# EAGLE library part TLV5618 (library EE445L)
The TLV5618A is a dual 12-bit voltage output DAC with a flexible 3-wire serial interface. The serial interface is compatible with TMS320, SPI, QSPI, and Microwire serial ports. It is programmed with a 16-bit serial string containing 4 control and 12 data bits
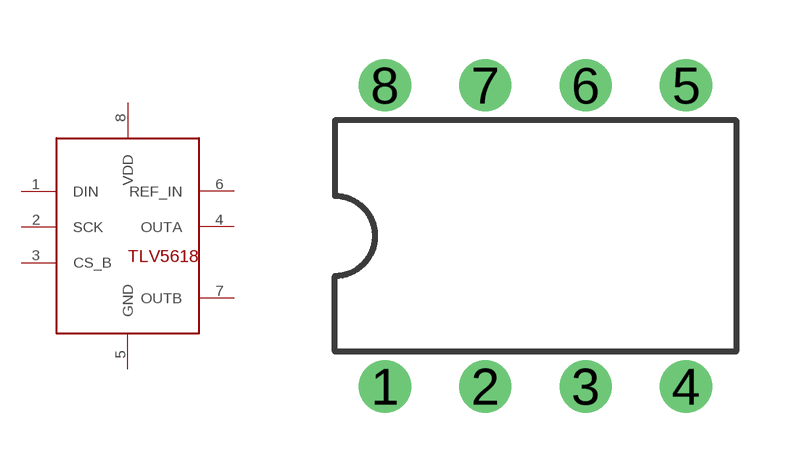
[diagram p31: symbol with the pads of DIL08; footprint DIL08]

Designator prefix -

## TLV5618  [DIL08]
1  DIN
2  SCK
3  CS_B
4  OUTA
5  GND
6  REF_IN
7  OUTB
8  VDD

## Footprint DIL08 (pad centres in mm)
Dual In Line Package
drill 0.813 pad 1.27: 1 -3.81,-3.81; 2 -1.27,-3.81; 3 1.27,-3.81; 4 3.81,-3.81; 5 3.81,3.81; 6 1.27,3.81; 7 -1.27,3.81; 8 -3.81,3.81